# Altium integrated library Linear Technology PMIC-Switching Reg LTC1174-LTC3901.IntLib: 2647 symbols (part 178 of 310)
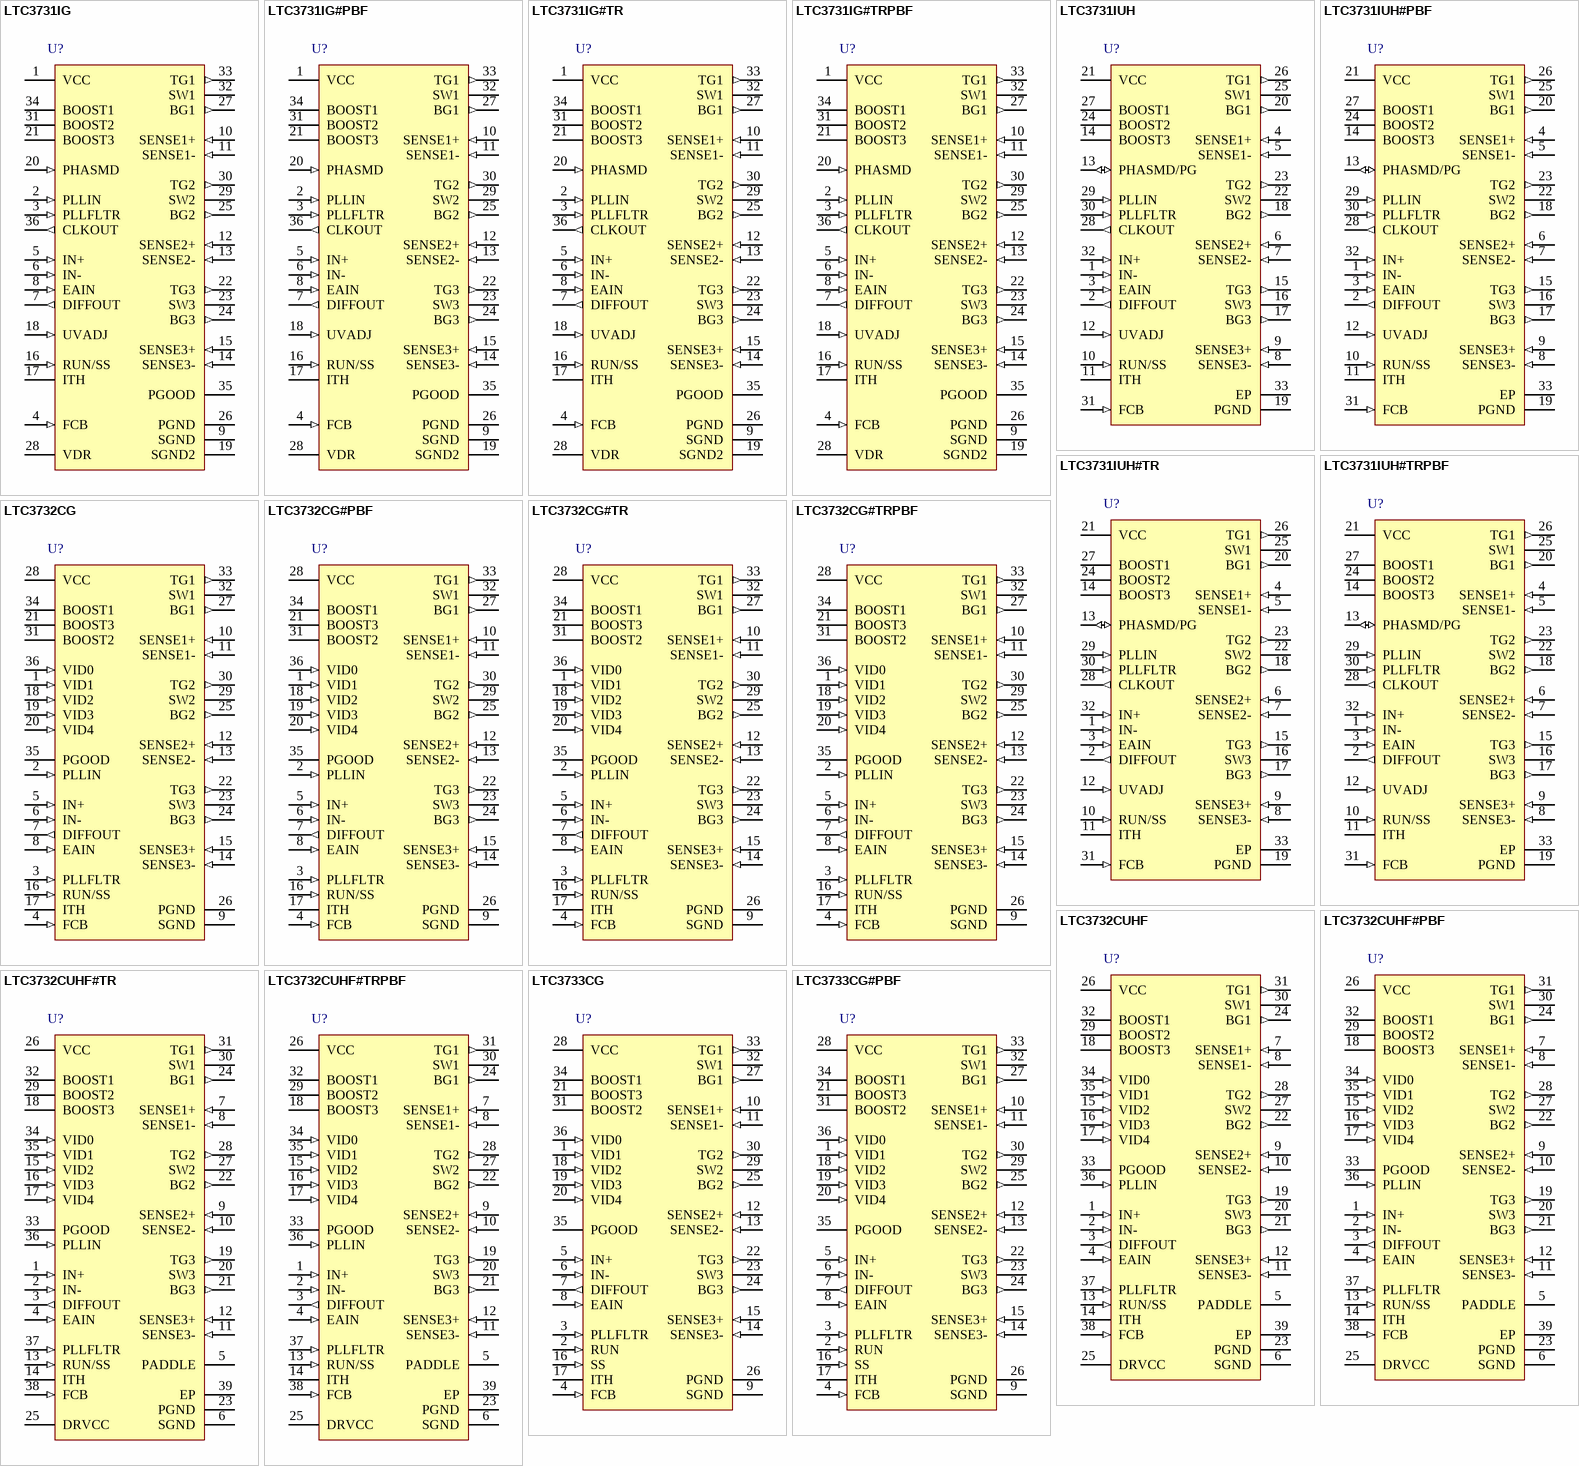
[diagram p317: symbols LTC3731IG to LTC3733CG#PBF]

## LTC3731IUH
designator U?
3-Phase, 600 kHz, Synchronous Buck Switching Regulator Controller, 32-pin QFN (UH-32), -40 to 85 degC; Manufacturer: Linear Technology; PartNumber: LTC3731IUH; Number of Outputs: 1; PackageReference: UH-32; PackageDescription: 32-Pin Plastic QFN, Body 5 x 5 mm, Pitch 0.5 mm; RoHS: FALSE; Code_JEDEC: MO-220
footprint LT-UH-32_N (QFN, 32-Leads, Body 5.1x5.1mm, Pitch 0.5mm, Thermal Pad 3.45X3.45mm, IPC Medium Density)
footprint LT-UH-32_L (QFN, 32-Leads, Body 5.1x5.1mm, Pitch 0.5mm, Thermal Pad 3.45X3.45mm, IPC High Density)
footprint LT-UH-32_M (QFN, 32-Leads, Body 5.1x5.1mm, Pitch 0.5mm, Thermal Pad 3.45X3.45mm, IPC Low Density)
pins: 1 IN- (in) "Inputs to a precision, unity-gain differential amplifier with internal precision resistors. This provides true remote sensing of both the positive and negative load terminals for precise output voltage control.", 2 DIFFOUT (out) "Output of the Remote Output Voltage Sensing Differential Amplifier.", 3 EAIN (in) "This is the input to the error amplifier that compares the feedback voltage to the internal 0.6V reference voltage.", 4 SENSE1+ (in) "The Inputs to Each Differential Current Comparator. The ITH pin voltage and built-in offsets between SENSE- and SENSE+ pins, in conjunction with RSENSE, set the current trip threshold level.", 5 SENSE1- (in) "The Inputs to Each Differential Current Comparator. The ITH pin voltage and built-in offsets between SENSE- and SENSE+ pins, in conjunction with RSENSE, set the current trip threshold level.", 6 SENSE2+ (in) "The Inputs to Each Differential Current Comparator. The ITH pin voltage and built-in offsets between SENSE- and SENSE+ pins, in conjunction with RSENSE, set the current trip threshold level.", 7 SENSE2- (in) "The Inputs to Each Differential Current Comparator. The ITH pin voltage and built-in offsets between SENSE- and SENSE+ pins, in conjunction with RSENSE, set the current trip threshold level.", 8 SENSE3- (in) "The Inputs to Each Differential Current Comparator. The ITH pin voltage and built-in offsets between SENSE- and SENSE+ pins, in conjunction with RSENSE, set the current trip threshold level.", 9 SENSE3+ (in) "The Inputs to Each Differential Current Comparator. The ITH pin voltage and built-in offsets between SENSE- and SENSE+ pins, in conjunction with RSENSE, set the current trip threshold level.", 10 RUN/SS (in) "Combination of Soft-Start, Run Control Input and Short-Circuit Detection Timer. A capacitor to ground at this pin sets the ramp time to full current output as well as the time delay prior to an output voltage short-circuit (See Datasheet)", 11 ITH "Error Amplifier Output and Switching Regulator Compensation Point. All three current comparator¡¯s thresholds increase with this control voltage.", 12 UVADJ (in) "Input to the Undervoltage Shutdown Comparator. When the applied input voltage is less than 1.2V, this comparator turns off the output MOSFET driver stages and discharges the RUN/SS capacitor.", 13 PHASMD/PG (io), 14 BOOST3 "Positive Supply Pins to the Topside Floating Drivers. Bootstrapped capacitors, charged with external Schottky diodes and a boost voltage source, are connected between the BOOST and SW pins. Voltage swing at the BOOST pins is (See Datasheet)", 15 TG3 (out) "High Current Gate Drives for Top N-channel MOSFETs. These are the outputs of floating drivers with a voltage swing equal to the boost voltage source superimposed on the switch node voltage SW.", 16 SW3 "Switch Node Connections to Inductors. Voltage swing at these pins is from a Schottky diode (external) voltage drop below ground to VIN (where VIN is the external MOSFET supply rail).", 17 BG3 (out) "High Current Gate Drives for Bottom N?Channel MOSFETs. Voltage swing at these pins is from ground to VCC.", 18 BG2 (out) "High Current Gate Drives for Bottom N?Channel MOSFETs. Voltage swing at these pins is from ground to VCC.", 19 PGND (power) "Driver Power Ground. This pin connects directly to the sources of the bottom N-channel external MOSFETs and the (-) terminals of CIN.", 20 BG1 (out) "High Current Gate Drives for Bottom N?Channel MOSFETs. Voltage swing at these pins is from ground to VCC.", 21 VCC (power) "Main Supply Pin. This pin supplies the controller circuit power. In the LTC3731 UH package, it also supplies the high power pulses to drive the external MOSFET gates. This pin needs to be very carefully and closely decoupled (See Datasheet)", 22 SW2 "Switch Node Connections to Inductors. Voltage swing at these pins is from a Schottky diode (external) voltage drop below ground to VIN (where VIN is the external MOSFET supply rail).", 23 TG2 (out) "High Current Gate Drives for Top N-channel MOSFETs. These are the outputs of floating drivers with a voltage swing equal to the boost voltage source superimposed on the switch node voltage SW.", 24 BOOST2 "Positive Supply Pins to the Topside Floating Drivers. Bootstrapped capacitors, charged with external Schottky diodes and a boost voltage source, are connected between the BOOST and SW pins. Voltage swing at the BOOST pins is (See Datasheet)", 25 SW1 "Switch Node Connections to Inductors. Voltage swing at these pins is from a Schottky diode (external) voltage drop below ground to VIN (where VIN is the external MOSFET supply rail).", 26 TG1 (out) "High Current Gate Drives for Top N-channel MOSFETs. These are the outputs of floating drivers with a voltage swing equal to the boost voltage source superimposed on the switch node voltage SW.", 27 BOOST1 "Positive Supply Pins to the Topside Floating Drivers. Bootstrapped capacitors, charged with external Schottky diodes and a boost voltage source, are connected between the BOOST and SW pins. Voltage swing at the BOOST pins is (See Datasheet)", 28 CLKOUT (out) "Output clock signal available to synchronize other controller ICs for additional MOSFET stages/phases.", 29 PLLIN (in) "Synchronization Input to Phase Detector. This pin is internally terminated to SGND with 50kohm. The phase-locked loop will force the rising top gate signal of controller 1 to be synchronized with the rising edge of the PLLIN (See Datasheet)", 30 PLLFLTR (in) "The phase-locked loop¡¯s lowpass filter is tied to this pin. Alternatively, this pin can be driven with an AC or DC voltage source to vary the frequency of the internal oscillator. (Do not apply voltage directly to this pi(See Datasheet)", 31 FCB (in) "Forced Continuous Control Input. The voltage applied to this pin sets the operating mode of the controller. The forced continuous current mode is active when the applied voltage is less than 0.6V. Burst Mode operation will (See Datasheet)", 32 IN+ (in) "Inputs to a precision, unity-gain differential amplifier with internal precision resistors. This provides true remote sensing of both the positive and negative load terminals for precise output voltage control.", 33 EP (power) "Signal Ground. This pin must be routed separately under the IC to the PGND pin and then to the main ground plane. The exposed pad on the LTC3731 UH package is SGND and must be soldered to the PCB."